# Altium footprint library SelfLib.PcbLib: 55 footprints (part 2 of 4)
Each footprint in its own frame and in the unit in brackets; x right, y up, seen from the top. Pads: shape width x height; smd on the part's side, far side on the other; paste and mask are expansions set on the pad; w line width, h text height; cw(c..) or ccw(c..) is an arc to the next point about the centre after c.
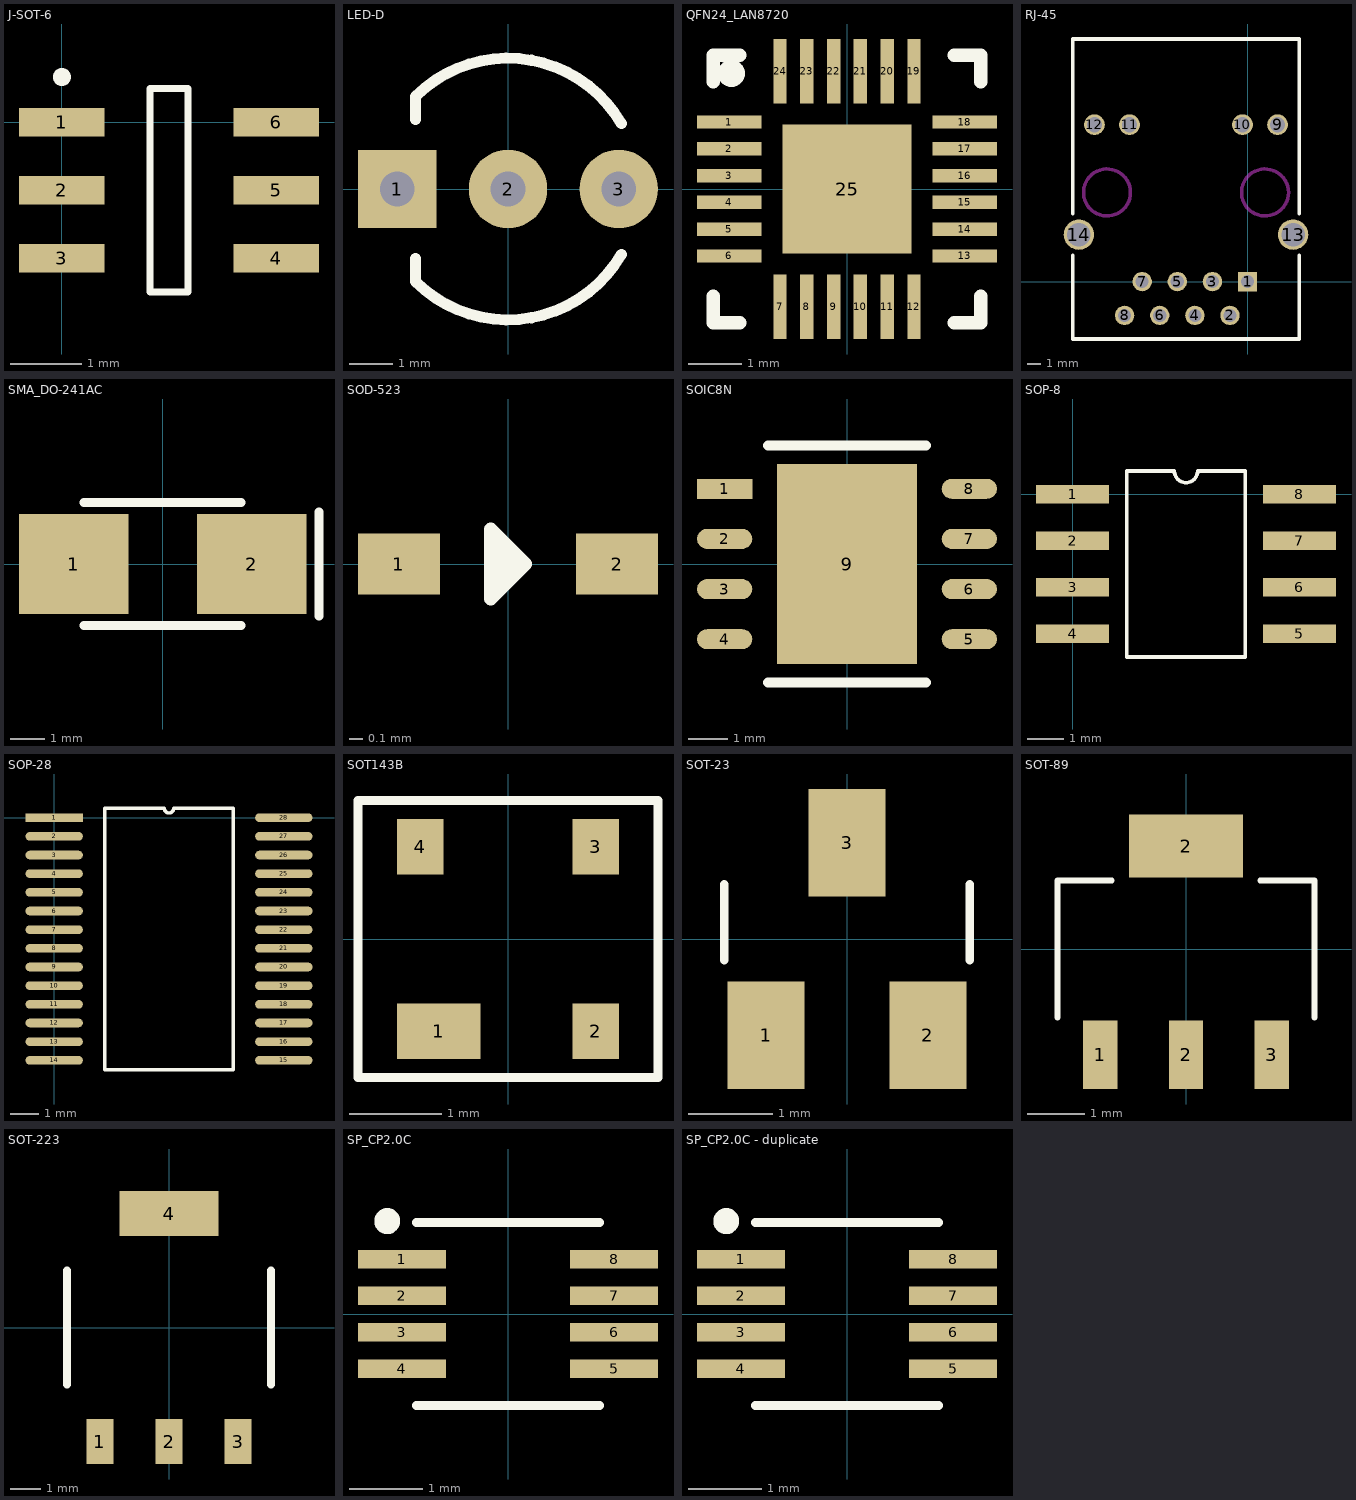
[diagram p1: the footprints below, top view; thin cyan lines are the x and y axes]

## J-SOT-6 [mm]
pads (6):
  rect 1.2x0.4 smd: 1(0,0) 2(0,-0.95) 3(0,-1.9) 4(3,-1.9) 5(3,-0.95) 6(3,0)
Top Overlay:
  circle w0.254: c0,0.635 r0
  lines w0.1: 1.235,-2.375 1.765,-2.375 1.765,0.475 1.235,0.475 1.235,-2.375

## LED-D [mm]
height 10
pads (3):
  rect 1.8x1.8 hole 0.8: 1(-2.54,0)
  round 1.8 hole 0.8: 2(0,0) 3(2.54,0)
Top Overlay:
  lines w0.254: -2.121,-1.6 -2.121,-2.121 ccw(c0,0) 2.598,-1.5 ; -2.121,1.6 -2.121,2.121 cw(c0,0) 2.598,1.5

## PCBComponent_1 [mm]

## QFN24_LAN8720 [mm]
height 1
pads (25):
  rect 1.2x0.25 smd: 1(-2.2,1.25) 2(-2.2,0.75) 3(-2.2,0.25) 4(-2.2,-0.25) 5(-2.2,-0.75) 6(-2.2,-1.25) 13(2.2,-1.25) 14(2.2,-0.75) 15(2.2,-0.25) 16(2.2,0.25) 17(2.2,0.75) 18(2.2,1.25)
  rect 0.25x1.2 smd: 7(-1.25,-2.2) 8(-0.75,-2.2) 9(-0.25,-2.2) 10(0.25,-2.2) 11(0.75,-2.2) 12(1.25,-2.2) 19(1.25,2.2) 20(0.75,2.2) 21(0.25,2.2) 22(-0.25,2.2) 23(-0.75,2.2) 24(-1.25,2.2)
  rect 2.4x2.4 smd: 25(0,0)
Top Overlay:
  circle w0.254: c-2.159,2.159 r0.127
  lines w0.254: -2.5,-2 -2.5,-2.5 -2,-2.5 ; -2.5,2 -2.5,2.5 -2,2.5 ; 2,-2.5 2.5,-2.5 2.5,-2 ; 2,2.5 2.5,2.5 2.5,2

## RJ-45 [mm]
height 12
pads (14):
  rect 1.4x1.4 hole 0.95: 1(0,0)
  round 1.4 hole 0.95: 2(-1.27,-2.44) 3(-2.54,0) 4(-3.81,-2.44) 5(-5.08,0) 6(-6.35,-2.44) 7(-7.62,0) 8(-8.89,-2.44)
  round 1.5 hole 1.1: 9(2.175,11.35) 10(-0.365,11.35) 11(-8.535,11.35) 12(-11.075,11.35)
  round 2.2 hole 1.7: 13(3.295,3.4) 14(-12.195,3.4)
Top Overlay:
  lines w0.254: -12.65,1.9 -12.65,-4.15 3.75,-4.15 3.75,1.9 ; -12.65,4.9 -12.65,17.55 3.75,17.55 3.75,4.9
Keep-Out Layer:
  circle w0.254: c-10.165,6.45 r1.7
  circle w0.254: c1.265,6.45 r1.7

## SMA_DO-241AC [mm]
height 2.7
pads (2):
  rect 3.2x2.92 smd: 1(-2.6,0) 2(2.6,0)
Top Overlay:
  lines w0.254: -2.3,-1.8 2.3,-1.8 ; -2.3,1.8 2.3,1.8 ; 4.572,-1.524 4.572,1.524

## SOD-523 [mm]
height 1
pads (2):
  rect 0.6x0.45 smd: 1(-0.8,0) 2(0.8,0)
Top Overlay:
  region: 0.127,0 -0.127,0.254 -0.127,-0.254
  lines w0.1: -0.127,-0.254 -0.127,0.254 0.127,0 -0.127,-0.254

## SOIC8N [mm]
height 2
pads (9):
  rect 1.4x0.508 smd: 1(-3.1,1.905)
  oval 1.4x0.508 smd: 2(-3.1,0.635) 3(-3.1,-0.635) 4(-3.1,-1.905) 5(3.1,-1.905) 6(3.1,-0.635) 7(3.1,0.635) 8(3.1,1.905)
  rect 3.55x5.07 smd: 9(0,0)
Top Overlay:
  lines w0.254: -2,-3 2,-3 ; -2,3 2,3

## SOP-8 [mm]
pads (8):
  rect 2x0.5 smd: 1(0,0) 2(0,-1.27) 3(0,-2.54) 4(0,-3.81) 5(6.2,-3.81) 6(6.2,-2.54) 7(6.2,-1.27) 8(6.2,0)
Top Overlay:
  lines w0.1: 1.485,-4.445 1.485,0.635 2.782,0.635 ccw(c3.1,0.635) 3.417,0.635 4.715,0.635 4.715,-4.445 1.485,-4.445

## SOP-28 [mm]
pads (28):
  rect 2x0.3 smd: 1(0,0)
  oval 2x0.3 smd: 2(0,-0.65) 3(0,-1.3) 4(0,-1.95) 5(0,-2.6) 6(0,-3.25) 7(0,-3.9) 8(0,-4.55) 9(0,-5.2) 10(0,-5.85) 11(0,-6.5) 12(0,-7.15) 13(0,-7.8) 14(0,-8.45) 15(8,-8.45) 16(8,-7.8) 17(8,-7.15) 18(8,-6.5) 19(8,-5.85) 20(8,-5.2) 21(8,-4.55) 22(8,-3.9) 23(8,-3.25) 24(8,-2.6) 25(8,-1.95) 26(8,-1.3) 27(8,-0.65) 28(8,0)
Top Overlay:
  lines w0.12: 1.755,-8.775 6.245,-8.775 6.245,0.325 4.162,0.325 cw(c4,0.325) 3.838,0.325 1.755,0.325 1.755,-8.775

## SOT143B [mm]
height 1.5
pads (4):
  rect 0.9x0.6 smd: 1(-0.75,-1)
  rect 0.5x0.6 smd: 2(0.95,-1) 3(0.95,1) 4(-0.95,1)
Top Overlay:
  lines w0.1: -1.625,-1.5 -1.625,1.5 1.625,1.5 1.625,-1.5 -1.625,-1.5

## SOT-23 [mm]
height 1
pads (3):
  rect 0.915x1.27 smd: 1(-0.958,-1.14) 2(0.958,-1.14) 3(0,1.14)
Top Overlay:
  lines w0.1: -1.45,-0.25 -1.45,0.65 ; 1.45,-0.25 1.45,0.65

## SOT-89 [mm]
height 1.5
pads (4):
  rect 0.6x1.2 smd: 1(-1.5,-1.85) 2(0,-1.85) 3(1.5,-1.85)
  rect 2x1.1 smd: 2(0,1.8)
Top Overlay:
  lines w0.1: -2.25,-1.2 -2.25,1.2 -1.3,1.2 ; 1.3,1.2 2.25,1.2 2.25,-1.2

## SOT-223 [mm]
height 2
pads (4):
  rect 0.9x1.5 smd: 1(-2.3,-3.8) 2(0,-3.8) 3(2.3,-3.8)
  rect 3.3x1.5 smd: 4(0,3.8)
Top Overlay:
  lines w0.254: -3.4,-1.9 -3.4,1.9 ; 3.4,-1.9 3.4,1.9

## SP_CP2.0C [mm]
pads (8):
  rect 1.2x0.25 smd: 1(-1.45,0.75) 2(-1.45,0.25) 3(-1.45,-0.25) 4(-1.45,-0.75) 5(1.45,-0.75) 6(1.45,-0.25) 7(1.45,0.25) 8(1.45,0.75)
Top Overlay:
  circle w0.254: c-1.651,1.27 r0.05
  lines w0.125: -1.25,-1.25 1.25,-1.25 ; -1.25,1.25 1.25,1.25

## SP_CP2.0C - duplicate [mm]
pads (8):
  rect 1.2x0.25 smd: 1(-1.45,0.75) 2(-1.45,0.25) 3(-1.45,-0.25) 4(-1.45,-0.75) 5(1.45,-0.75) 6(1.45,-0.25) 7(1.45,0.25) 8(1.45,0.75)
Top Overlay:
  circle w0.254: c-1.651,1.27 r0.05
  lines w0.125: -1.25,-1.25 1.25,-1.25 ; -1.25,1.25 1.25,1.25